# Altium footprint library ZZB_Lib.PcbLib: 83 footprints (part 1 of 6)
Each footprint in its own frame and in the unit in brackets; x right, y up, seen from the top. Pads: shape width x height; smd on the part's side, far side on the other; paste and mask are expansions set on the pad; w line width, h text height; cw(c..) or ccw(c..) is an arc to the next point about the centre after c.
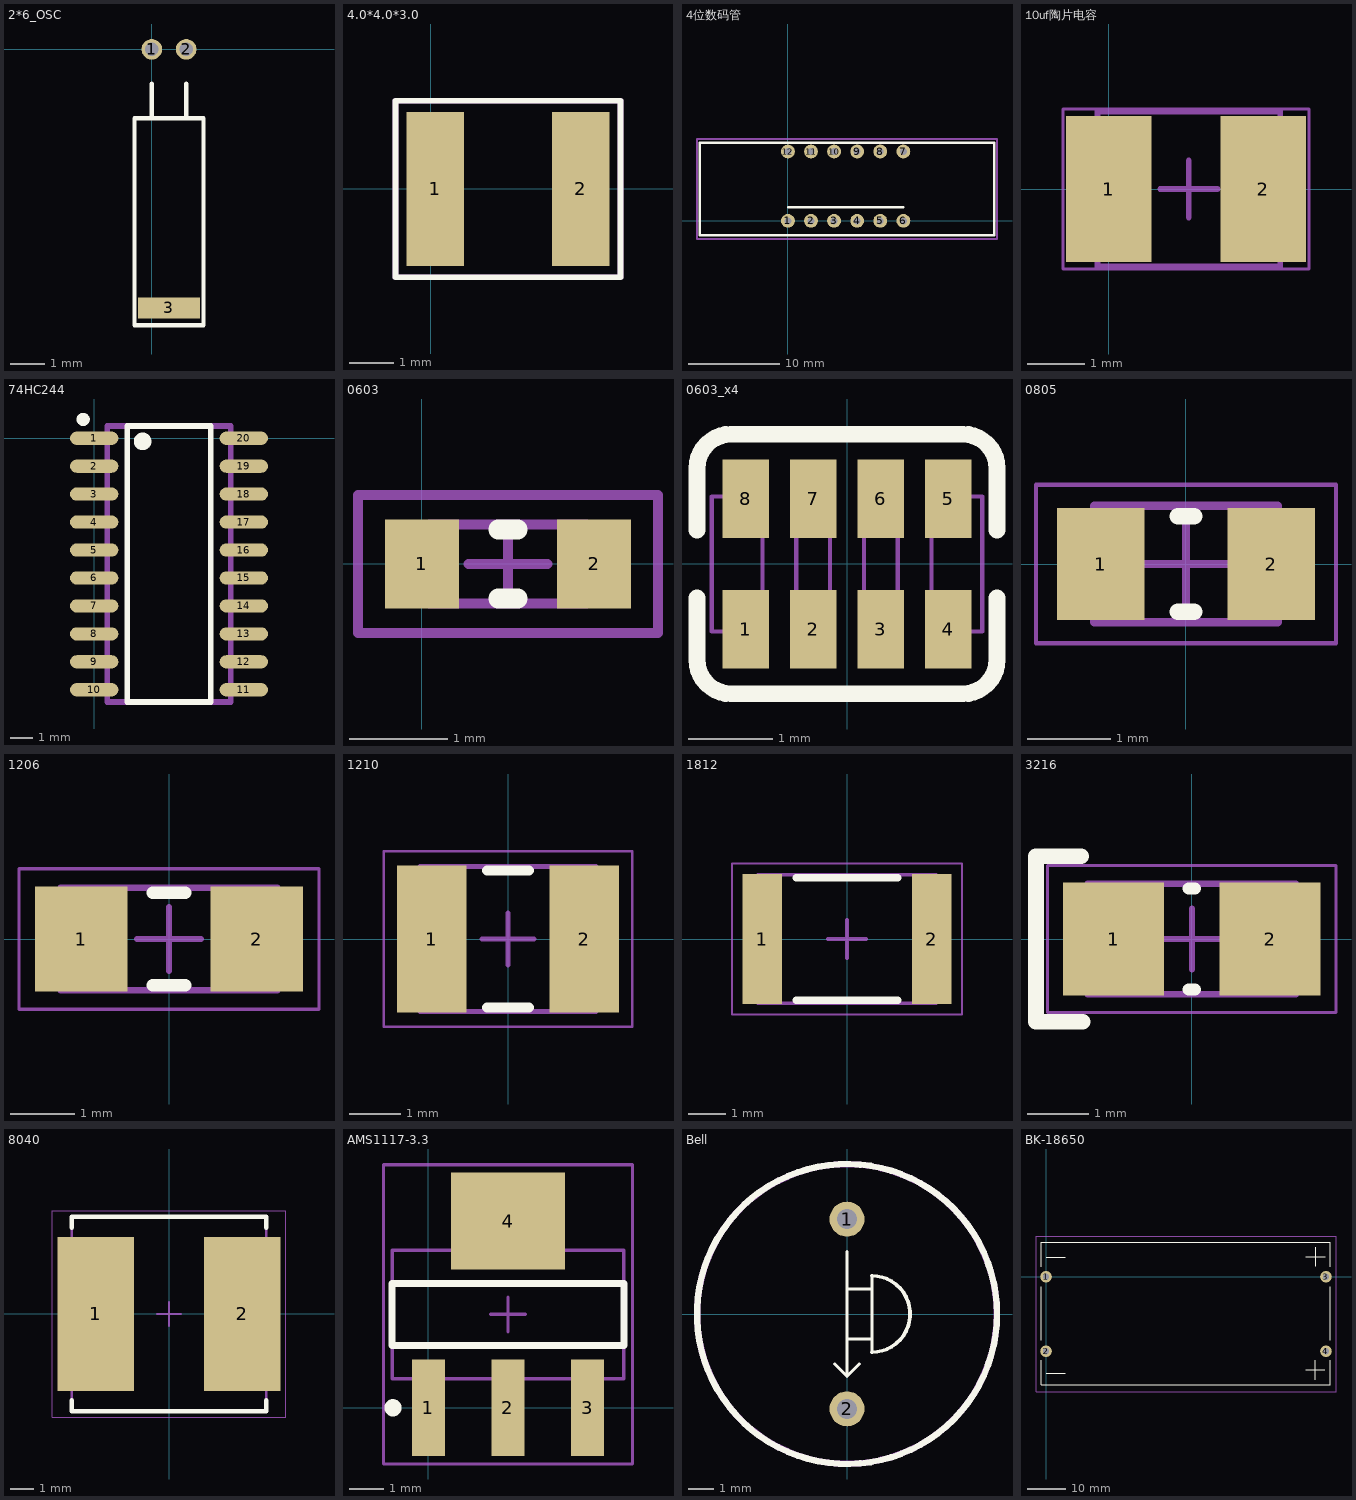
[diagram p0: the footprints below, top view; thin cyan lines are the x and y axes]

## 2*6_OSC [mm]
pads (3):
  round 0.6 hole 0.4: 1(0,0) 2(1,0)
  rect 1.8x0.6 smd: 3(0.5,-7.5)
Top Overlay:
  lines w0.127: 0,-2 0,-1 ; 1,-2 1,-1 ; -0.5,-8 1.5,-8 1.5,-2 -0.5,-2 -0.5,-8

## 4.0*4.0*3.0 [mm]
pads (2):
  rect 1.3x3.5 smd: 1(0.1,0) 2(3.4,0)
Top Overlay:
  lines w0.127: -0.8,-2 4.3,-2 4.3,2 -0.8,2 -0.8,-2
Mechanical 15:
  lines w0.127: -0.8,-2 -0.8,2 4.3,2 4.3,-2 -0.8,-2

## 4位数码管 [mil]
height 147.64
pads (12):
  round 60 hole 30: 1(0,0) 2(100,0) 3(200,0) 4(300,0) 5(400,0) 6(500,0) 7(500,300) 8(400,300) 9(300,300) 10(200,300) 11(100,300) 12(0,300)
Top Overlay:
  lines w10: 0,59.06 500,59.06 ; -381.89,338.58 -381.89,145.67 -381.89,-62.99 893.7,-62.99 893.7,338.58 -381.89,338.58 ; -381.89,338.58 -381.89,338.58
Mechanical 15:
  lines w10: -393.7,-78.74 905.51,-78.74 905.51,354.33 -393.7,354.33 -393.7,-78.74

## 10uf陶片电容 [mm]
pads (2):
  rect 1.5x2.55 smd: 1(0,0) 2(2.7,0)
Mechanical 13:
  lines w0.1: -0.2,-1.35 -0.2,1.35 3,1.35 3,-1.35 -0.2,-1.35
Mechanical 15:
  lines w0.05: -0.8,-1.397 -0.8,1.397 3.5,1.397 3.5,-1.397 -0.8,-1.397
  lines w0.1: 0.9,0 1.9,0 ; 1.4,-0.5 1.4,0.5
3D body: height 1.8, standoff 0, extent -0.2,-1.35 3,1.35

## 74HC244 [mm]
pads (20):
  oval 2.2x0.6 smd: 1(0,0) 2(0,-1.27) 3(0,-2.54) 4(0,-3.81) 5(0,-5.08) 6(0,-6.35) 7(0,-7.62) 8(0,-8.89) 9(0,-10.16) 10(0,-11.43) 11(6.8,-11.43) 12(6.8,-10.16) 13(6.8,-8.89) 14(6.8,-7.62) 15(6.8,-6.35) 16(6.8,-5.08) 17(6.8,-3.81) 18(6.8,-2.54) 19(6.8,-1.27) 20(6.8,0)
Top Overlay:
  circle w0.3: c-0.5,0.855 r0.15
  circle w0.4: c2.2,-0.145 r0.2
  lines w0.254: 1.5,-11.985 1.5,0.555 5.3,0.555 5.3,-11.985 1.5,-11.985
Mechanical 13:
  lines w0.254: 0.6,-11.985 0.6,0.555 6.2,0.555 6.2,-11.985 0.6,-11.985

## 0603 [mm]
pads (2):
  rect 0.75x0.9 smd: 1(0,0) 2(1.75,0)
Top Overlay:
  lines w0.2: 0.775,-0.35 0.975,-0.35 ; 0.775,0.35 0.975,0.35
Mechanical 13:
  lines w0.1: 0.075,-0.4 0.075,0.4 1.675,0.4 1.675,-0.4 0.075,-0.4
Mechanical 15:
  lines w0.1: 0.475,0 1.275,0 ; 0.875,-0.4 0.875,0.4 ; -0.65,-0.7 -0.65,0.7 2.4,0.7 2.4,-0.7 -0.65,-0.7
3D body: height 0.5, standoff 0, extent 0.075,-0.4 1.675,0.4

## 0603_x4 [mm]
pads (8):
  rect 0.55x0.93 smd mask+0.051: 1(-1.2,-0.77) 2(-0.4,-0.77) 3(0.4,-0.77) 4(1.2,-0.77) 5(1.2,0.77) 6(0.4,0.77) 7(-0.4,0.77) 8(-1.2,0.77)
Top Overlay:
  lines w0.2: -1.775,-0.4 -1.775,-1.135 ccw(c-1.375,-1.135) -1.375,-1.535 1.375,-1.535 ccw(c1.375,-1.135) 1.775,-1.135 1.775,-0.4 ; -1.775,0.4 -1.775,1.135 cw(c-1.375,1.135) -1.375,1.535 1.375,1.535 cw(c1.375,1.135) 1.775,1.135 1.775,0.4
Mechanical 13:
  lines w0.05: -1.6,-0.8 -1.6,0.8 -1,0.8 -1,-0.8 -1.6,-0.8 ; -0.6,-0.8 -0.6,0.8 -0.2,0.8 -0.2,-0.8 -0.6,-0.8 ; 0.2,-0.8 0.2,0.8 0.6,0.8 0.6,-0.8 0.2,-0.8 ; 1,-0.8 1,0.8 1.6,0.8 1.6,-0.8 1,-0.8

## 0805 [mm] "Chip Resistor, 2-Leads, Body 2.05x1.25mm, IPC Medium Density"
height 0.5
pads (2):
  rect 1.05x1.35 smd: 1(-1.025,0) 2(1.025,0)
Top Overlay:
  lines w0.2: -0.1,-0.575 0.1,-0.575 ; -0.1,0.575 0.1,0.575
Mechanical 13:
  lines w0.1: -1.1,-0.7 1.1,-0.7 1.1,0.7 -1.1,0.7 -1.1,-0.7
Mechanical 15:
  lines w0.05: -1.8,-0.95 1.8,-0.95 1.8,0.95 -1.8,0.95 -1.8,-0.95
  lines w0.1: -0.5,0 0.5,0 ; 0,-0.5 0,0.5
3D body: height 0.5, standoff 0, extent 0.75,-0.7 1.1,0.7
3D body: height 0.5, standoff 0, extent -1.1,-0.7 -0.75,0.7
3D body: height 0.5, standoff 0, extent -0.75,-0.7 0.75,0.7

## 1206 [mm] "Chip Capacitor, 2-Leads, Body 3.20x1.50mm, IPC Medium Density"
height 0.7
pads (2):
  rect 1.45x1.65 smd: 1(-1.375,0) 2(1.375,0)
Top Overlay:
  lines w0.2: -0.25,-0.725 0.25,-0.725 ; -0.25,0.725 0.25,0.725
Mechanical 13:
  lines w0.1: -1.7,-0.8 -1.7,0.8 1.7,0.8 1.7,-0.8 -1.7,-0.8
Mechanical 15:
  lines w0.05: -2.35,-1.1 -2.35,1.1 2.35,1.1 2.35,-1.1 -2.35,-1.1
  lines w0.1: -0.5,0 0.5,0 ; 0,-0.5 0,0.5
3D body: height 0.7, standoff 0, extent -0.9,-0.8 0.9,0.8
3D body: height 0.7, standoff 0, extent -1.7,-0.8 -0.9,0.8
3D body: height 0.7, standoff 0, extent 0.9,-0.8 1.7,0.8

## 1210 [mm] "Chip Resistor, 2-Leads, Body 3.20x2.60mm, IPC Medium Density"
height 0.7
pads (2):
  rect 1.35x2.85 smd: 1(-1.475,0) 2(1.475,0)
Top Overlay:
  lines w0.2: -0.4,-1.325 0.4,-1.325 ; -0.4,1.325 0.4,1.325
Mechanical 13:
  lines w0.1: -1.7,-1.4 -1.7,1.4 1.7,1.4 1.7,-1.4 -1.7,-1.4
Mechanical 15:
  lines w0.05: -2.4,-1.7 -2.4,1.7 2.4,1.7 2.4,-1.7 -2.4,-1.7
  lines w0.1: -0.5,0 0.5,0 ; 0,-0.5 0,0.5
3D body: height 0.7, standoff 0, extent -1.07,-1.4 1.07,1.4
3D body: height 0.7, standoff 0, extent -1.7,-1.4 -1.07,1.4
3D body: height 0.7, standoff 0, extent 1.07,-1.4 1.7,1.4

## 1812 [mm] "Chip2-Leads, Body 4.55x3.24mm, IPC Medium Density"
height 0.6
pads (2):
  rect 1.05x3.45 smd: 1(-2.25,0) 2(2.25,0)
Top Overlay:
  lines w0.2: -1.35,-1.625 1.35,-1.625 ; -1.35,1.625 1.35,1.625
Mechanical 13:
  lines w0.1: -2.365,-1.705 -2.365,1.705 2.365,1.705 2.365,-1.705 -2.365,-1.705
Mechanical 15:
  lines w0.05: -3.05,-2 -3.05,2 3.05,2 3.05,-2 -3.05,-2
  lines w0.1: -0.5,0 0.5,0 ; 0,-0.5 0,0.5
3D body: height 0.6, standoff 0, extent -1.965,-1.705 1.965,1.705
3D body: height 0.6, standoff 0, extent -2.365,-1.705 -1.965,1.705
3D body: height 0.6, standoff 0, extent 1.965,-1.705 2.365,1.705

## 3216 [mm] "Chip Capacitor, 2-Leads, Body 3.20x1.60mm, IPC Medium Density"
height 1.8
pads (2):
  rect 1.65x1.85 smd: 1(-1.275,0) 2(1.275,0)
Top Overlay:
  lines w0.2: -0.05,-0.825 0.05,-0.825 ; -0.05,0.825 0.05,0.825
  lines w0.254: -1.803,1.346 -2.54,1.346 -2.54,-1.346 -1.778,-1.346
Mechanical 13:
  lines w0.1: -1.7,-0.9 1.7,-0.9 1.7,0.9 -1.7,0.9 -1.7,-0.9
Mechanical 15:
  lines w0.05: -2.35,-1.2 2.35,-1.2 2.35,1.2 -2.35,1.2 -2.35,-1.2
  lines w0.1: -0.5,0 0.5,0 ; 0,-0.5 0,0.5
3D body: height 0.6, standoff 0, extent 0.9,-0.9 1.7,0.9
3D body: height 0.6, standoff 0, extent -1.7,-0.9 -0.9,0.9
3D body: height 0.6, standoff 0, extent -0.9,-0.9 0.9,0.9

## 8040 [mm] "Precision Wire Wound Inductor, 2-Leads, Body 8.15x8.15mm, IPC Medium Density"
height 4.2
pads (2):
  rect 3.25x6.55 smd: 1(-3.125,0) 2(3.125,0)
Top Overlay:
  lines w0.2: -4.15,-3.675 -4.15,-4.15 4.15,-4.15 4.15,-3.675 ; -4.15,3.675 -4.15,4.15 4.15,4.15 4.15,3.675
Mechanical 13:
  lines w0.1: -4.15,-4.15 -4.15,4.15 4.15,4.15 4.15,-4.15 -4.15,-4.15
Mechanical 15:
  lines w0.05: -4.975,-4.4 -4.975,4.4 4.975,4.4 4.975,-4.4 -4.975,-4.4
  lines w0.1: -0.5,0 0.5,0 ; 0,-0.5 0,0.5
3D body: height 4.2, standoff 0, extent -4.15,-4.15 4.15,4.15

## AMS1117-3.3 [mm]
pads (4):
  rect 0.95x2.8 smd: 1(0,0) 2(2.3,0) 3(4.6,0)
  rect 3.3x2.8 smd: 4(2.3,5.4)
Top Overlay:
  circle w0.25: c-1.025,0 r0.125
  lines w0.2: -1.05,1.8 5.65,1.8 5.65,3.6 -1.05,3.6 -1.05,1.8
Mechanical 13:
  lines w0.1: -1.05,0.845 5.65,0.845 5.65,4.555 -1.05,4.555 -1.05,0.845
Mechanical 15:
  lines w0.1: 1.8,2.7 2.8,2.7 ; 2.3,2.2 2.3,3.2 ; -1.3,-1.625 5.9,-1.625 5.9,7.025 -1.3,7.025 -1.3,-1.625
3D body: height 1.7, standoff 0.08, extent -1.05,0.845 5.65,4.555

## Bell [mm]
pads (2):
  round 1.4 hole 0.8: 1(0,3.8) 2(0,-3.8)
Top Overlay:
  circle w0.254: c0,0 r6.007
  lines w0.127: -0.5,-2 0,-2.5 ; 0,-1 1,-1 ; 0,1 1,1 ; 0,2.5 0,-2.5 ; 0.5,-2 0,-2.5 ; 1,-1.5 1,1.5
  lines w0.15: 1,-1.53 ccw(c1,0) 1,1.53
Mechanical 15:
  circle w0.254: c0,0 r6

## BK-18650 [mm]
pads (4):
  round 3 hole 1.6: 1(0,0) 2(0,-19.3) 3(72.5,0) 4(72.5,-19.3)
Top Overlay:
  lines w0.254: -1.27,-21.59 -1.27,-27.94 73.66,-27.94 73.66,-21.59 ; -1.27,-16.51 -1.27,-2.54 ; -1.27,2.54 -1.27,8.89 73.66,8.89 73.66,2.54 ; 0,-25 5,-25 ; 0,5 5,5 ; 67.246,-24.13 72.246,-24.13 ; 67.3,5.2 72.3,5.2 ; 69.746,-26.63 69.746,-21.63 ; 69.8,2.7 69.8,7.7 ; 73.66,-16.51 73.66,-2.54
Mechanical 13:
  lines w0.254: -2.6,-29.8 71,-29.8 75.1,-29.8 75.1,10.5 -2.6,10.5 -2.6,0 -2.6,-29.8